# Altium footprint library CONSMA022G.PcbLib: 2 footprints
Each footprint in its own frame and in the unit in brackets; x right, y up, seen from the top. Pads: shape width x height; smd on the part's side, far side on the other; paste and mask are expansions set on the pad; w line width, h text height; cw(c..) or ccw(c..) is an arc to the next point about the centre after c.
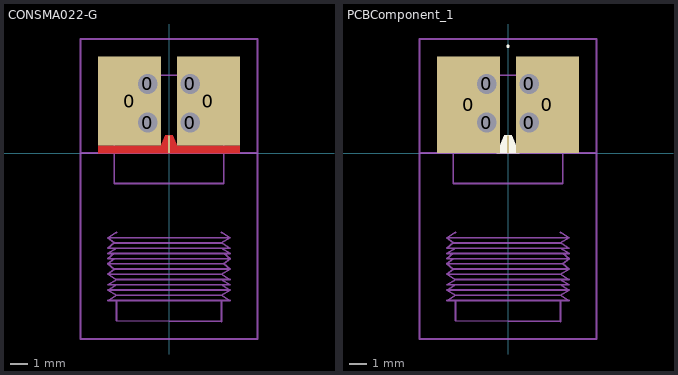
[diagram p0: the footprints below, top view; thin cyan lines are the x and y axes]

## CONSMA022-G [mm] "Footprint taken from TE website (SamacSys lib) and pin shrinked to 5.181mil (my 50ohm trace width)"
pads (7):
  rect 3.6x5.099 smd mask+0: 0(-2.26,2.98) 0(2.26,2.98)
  round 1.448 / inner round 1.448 / far side round 1.753 hole 1.14: 0(-1.215,1.75) 0(-1.215,3.96) 0(1.215,1.75) 0(1.215,3.96)
  rect 0.132x1.016 smd mask+0: 1(0,0.508)
Top Layer:
  pour cut-out: -0.635,0 0.635,0 0.218,1.026 -0.218,1.026
  pour cut-out: 0.831,0 0.46,0 0.894,0
  region: -0.46,0.431 -0.635,0 -4.06,0 -4.06,0.431
  region: 0.46,0.431 0.635,0 4.06,0 4.06,0.431
Top Paste:
  region: -0.46,0.431 -0.635,0 -4.06,0 -4.06,0.431
  region: 0.46,0.431 0.635,0 4.06,0 4.06,0.431
Top Solder:
  region: -0.635,0 0.635,0 0.218,1.026 -0.218,1.026
  region: -0.46,0.431 -0.635,0 -4.06,0 -4.06,0.431
  region: 0.46,0.431 0.635,0 4.06,0 4.06,0.431
Mechanical 13:
  lines w0.1: -5,0.005 -3.165,0.005 3.165,0.005 5,0.005 ; -3.135,-6.04 -3.5,-6.34 ; -3.135,-5.74 -3.5,-6.04 -3,-6.04 3.135,-6.04 3.5,-6.04 ; -3,-8.44 -3,-9.59 3,-9.64 3,-8.44 ; -3,-7.54 -3.5,-7.84 ; -3,-5.44 -3.5,-5.74 -3,-5.74 3,-5.74 3.5,-5.74 3,-5.44 ; -3,-4.54 -3.5,-4.84 ; 3,-7.54 3.5,-7.84 ; 3,-7.24 3.5,-7.54 -3.5,-7.54 -3,-7.24 ; 3,-4.54 3.5,-4.84 ; 3.135,-5.74 3.5,-6.04 ; -3.5,-7.84 -3,-8.14 ; -3.5,-7.84 3.5,-7.84 ; -3.5,-6.94 -3,-7.24 ; -3.5,-6.94 -3.135,-6.64 ; -3.5,-6.94 3,-6.94 ; -3.5,-6.34 -3.135,-6.64 ; -3.5,-6.34 3.135,-6.34 ; -3.5,-4.84 -3.135,-5.14 ; -3.5,-4.84 -3,-4.84 3.135,-4.84 3.5,-4.84 ; -3.135,-6.64 3.5,-6.64 ; -3.135,-5.14 -3.5,-5.44 -3.135,-5.44 3,-5.44 ; -3.135,-5.14 3,-5.14 ; -3,-8.14 -3.5,-8.44 3.5,-8.44 3,-8.14 ; -3,-8.14 3,-8.14 ; -3,-7.24 3.5,-7.24 3,-6.94 ; 3,-8.14 3.5,-7.84 ; 3,-6.94 3.5,-6.64 ; 3,-5.44 3.5,-5.44 3,-5.14 ; 3,-5.14 3.5,-4.84 ; 3.135,-6.34 3.5,-6.64 ; 3.135,-6.34 3.5,-6.04 ; -3.135,-1.74 -3.135,4.46 3.135,4.46 3.135,-1.74 -3.135,-1.74
  text "PCB EDGE" at 4.304,0.203 h0.61
Mechanical 15:
  lines w0.1: -5.06,-10.64 -5.06,6.53 5.06,6.53 5.06,-10.64 -5.06,-10.64
3D body "CONSMA022-G.stp": height 3.32, standoff -3.02, extent -3.175,-9.501 3.175,4.549

## PCBComponent_1 [mm]
pads (7):
  rect 3.6x5.53 smd: 0(-2.26,2.765) 0(2.26,2.765)
  round 1.448 hole 1.14: 0(-1.215,1.75) 0(-1.215,3.96) 0(1.215,1.75) 0(1.215,3.96)
  rect 0.132x1.016 smd: 1(0,0.508)
Top Overlay:
  pour cut-out: -0.635,0 0.635,0 0.218,1.026 -0.218,1.026
  lines w0.1: 0,6.06 cw(c0,6.11) 0,6.16 cw(c0,6.11) 0,6.06
Mechanical 13:
  lines w0.1: -5,0.005 -3.165,0.005 3.165,0.005 5,0.005 ; -3.135,-6.04 -3.5,-6.34 ; -3.135,-5.74 -3.5,-6.04 -3,-6.04 3.135,-6.04 3.5,-6.04 ; -3,-8.44 -3,-9.59 3,-9.64 3,-8.44 ; -3,-7.54 -3.5,-7.84 ; -3,-5.44 -3.5,-5.74 -3,-5.74 3,-5.74 3.5,-5.74 3,-5.44 ; -3,-4.54 -3.5,-4.84 ; 3,-7.54 3.5,-7.84 ; 3,-7.24 3.5,-7.54 -3.5,-7.54 -3,-7.24 ; 3,-4.54 3.5,-4.84 ; 3.135,-5.74 3.5,-6.04 ; -3.5,-7.84 -3,-8.14 ; -3.5,-7.84 3.5,-7.84 ; -3.5,-6.94 -3,-7.24 ; -3.5,-6.94 -3.135,-6.64 ; -3.5,-6.94 3,-6.94 ; -3.5,-6.34 -3.135,-6.64 ; -3.5,-6.34 3.135,-6.34 ; -3.5,-4.84 -3.135,-5.14 ; -3.5,-4.84 -3,-4.84 3.135,-4.84 3.5,-4.84 ; -3.135,-6.64 3.5,-6.64 ; -3.135,-5.14 -3.5,-5.44 -3.135,-5.44 3,-5.44 ; -3.135,-5.14 3,-5.14 ; -3,-8.14 -3.5,-8.44 3.5,-8.44 3,-8.14 ; -3,-8.14 3,-8.14 ; -3,-7.24 3.5,-7.24 3,-6.94 ; 3,-8.14 3.5,-7.84 ; 3,-6.94 3.5,-6.64 ; 3,-5.44 3.5,-5.44 3,-5.14 ; 3,-5.14 3.5,-4.84 ; 3.135,-6.34 3.5,-6.64 ; 3.135,-6.34 3.5,-6.04 ; -3.135,-1.74 -3.135,4.46 3.135,4.46 3.135,-1.74 -3.135,-1.74
  text "PCB EDGE" at 4.304,0.203 h0.61
Mechanical 15:
  lines w0.1: -5.06,-10.64 -5.06,6.53 5.06,6.53 5.06,-10.64 -5.06,-10.64
3D body "CONSMA022-G.stp": height 3.32, standoff -3.02, extent -3.175,-9.501 3.175,4.549